# EAGLE library part 61200821621 (library Wire_to_Board_Connectors_rev15d)
WR-BHD 2.54mm Male Box Header, 8 Pins=>Code : Con_WTB_BHD_2.54_Male_THT_WS_61200821621 <http://katalog.we-online.de/media/thumbs2/eican/thb_Con_WTB_BHD_2.54_Male_THT_WS_6120xx21621_pf2.jpg> Details see: http://katalog.we-online.de/en/em/612_0xx_216_21 Created 2014-06-04, Karrer Zheng 2014 (C) Würth Elektronik
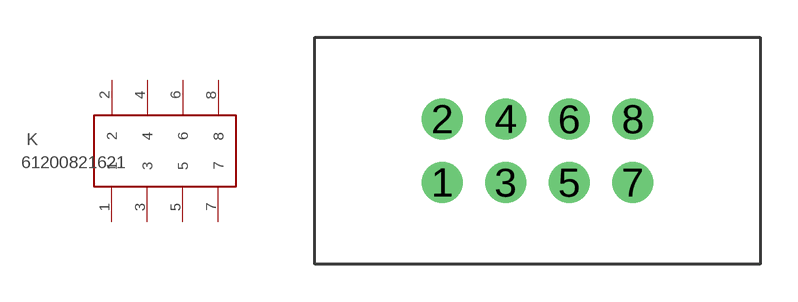
[diagram p116: symbol with the pads of 61200821621; footprint 61200821621]

Designator prefix K

## 61200821621  [61200821621]
1  1  pas
2  2  pas
3  3  pas
4  4  pas
5  5  pas
6  6  pas
7  7  pas
8  8  pas

## Footprint 61200821621 (pad centres in mm)
WR-BHD 2.54mm Male Box Header, 8 Pins
drill 1.1: 1 -2.54,-1.27; 2 -2.54,1.27; 3 0,-1.27; 4 0,1.27; 5 2.54,-1.27; 6 2.54,1.27; 7 5.08,-1.27; 8 5.08,1.27